# Altium schematic symbol library NKK.SchLib: 2 symbols
Pins are listed as number, name and electrical type; pins without a type are passive.

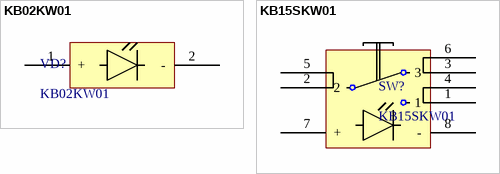
[diagram p0: symbols KB02KW01 to KB15SKW01]

## KB02KW01
designator VD?
footprint KB02KW01
pins: 1 +, 2 -

## KB15SKW01
designator SW?
footprint KBx5SKW01
pins: 1, 2, 3, 4, 5, 6, 7 +, 8 -